# Altium schematic symbol library SCH - MCU - STM32 - ST MICROELECTRONICS STM32L433C(B-C)YX WLCSP49.SchLib: 1 symbol
Pins are listed as number, name and electrical type; pins without a type are passive.

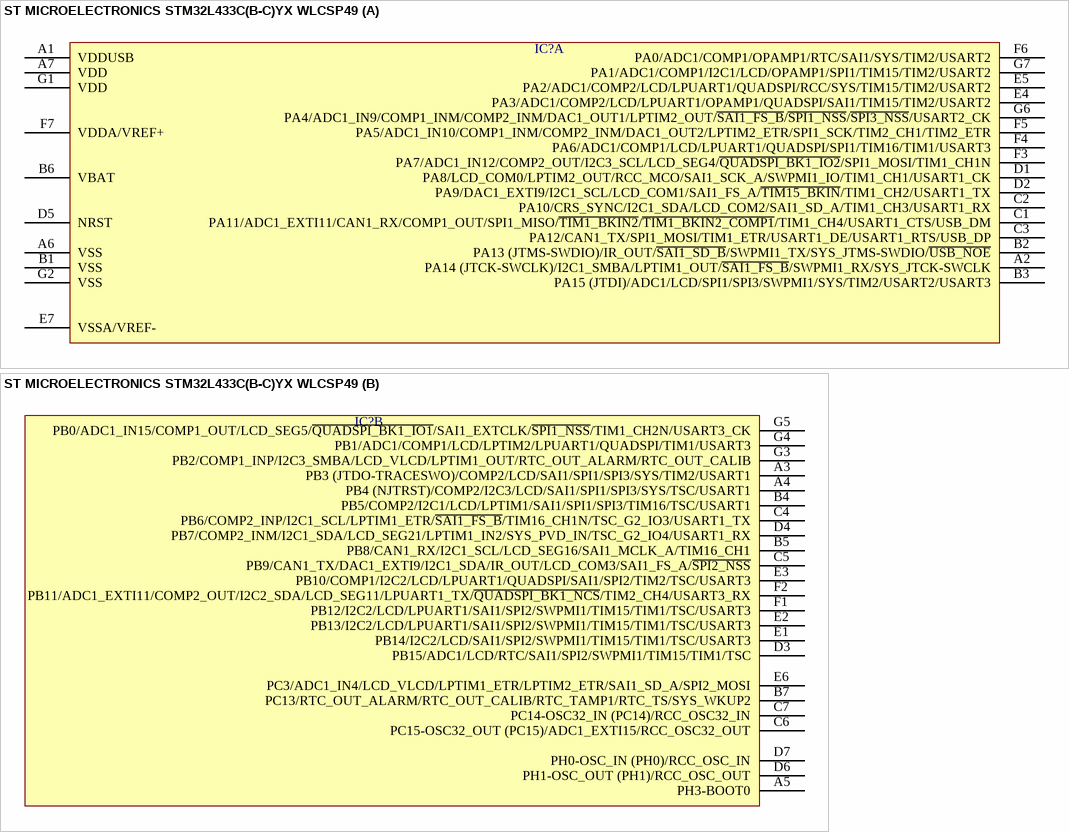
[diagram p0: symbol ST MICROELECTRONICS STM32L433C(B-C)YX WLCSP49]

## ST MICROELECTRONICS STM32L433C(B-C)YX WLCSP49
designator IC?  (value not drawn)
part A pins: A1 VDDUSB, A2 PA14 (JTCK-SWCLK)/I2C1_SMBA/LPTIM1_OUT/~{SAI1_FS_B}/SWPMI1_RX/SYS_JTCK-SWCLK, A6 VSS, A7 VDD, B1 VSS, B2 PA13 (JTMS-SWDIO)/IR_OUT/~{SAI1_SD_B}/SWPMI1_TX/SYS_JTMS-SWDIO/~{USB_NOE}, B3 PA15 (JTDI)/ADC1/LCD/SPI1/SPI3/SWPMI1/SYS/TIM2/USART2/USART3, B6 VBAT, C1 PA11/ADC1_EXTI11/CAN1_RX/COMP1_OUT/SPI1_MISO/~{TIM1_BKIN2}/~{TIM1_BKIN2_COMP1}/TIM1_CH4/USART1_CTS/USB_DM, C2 PA10/CRS_SYNC/I2C1_SDA/LCD_COM2/SAI1_SD_A/TIM1_CH3/USART1_RX, C3 PA12/CAN1_TX/SPI1_MOSI/TIM1_ETR/USART1_DE/USART1_RTS/USB_DP, D1 PA8/LCD_COM0/LPTIM2_OUT/RCC_MCO/SAI1_SCK_A/SWPMI1_IO/TIM1_CH1/USART1_CK, D2 PA9/DAC1_EXTI9/I2C1_SCL/LCD_COM1/SAI1_FS_A/~{TIM15_BKIN}/TIM1_CH2/USART1_TX, D5 NRST, E4 PA3/ADC1/COMP2/LCD/LPUART1/OPAMP1/QUADSPI/SAI1/TIM15/TIM2/USART2, E5 PA2/ADC1/COMP2/LCD/LPUART1/QUADSPI/RCC/SYS/TIM15/TIM2/USART2, E7 VSSA/VREF-, F3 PA7/ADC1_IN12/COMP2_OUT/I2C3_SCL/LCD_SEG4/~{QUADSPI_BK1_IO2}/SPI1_MOSI/TIM1_CH1N, F4 PA6/ADC1/COMP1/LCD/LPUART1/QUADSPI/SPI1/TIM16/TIM1/USART3, F5 PA5/ADC1_IN10/COMP1_INM/COMP2_INM/DAC1_OUT2/LPTIM2_ETR/SPI1_SCK/TIM2_CH1/TIM2_ETR, F6 PA0/ADC1/COMP1/OPAMP1/RTC/SAI1/SYS/TIM2/USART2, F7 VDDA/VREF+, G1 VDD, G2 VSS, G6 PA4/ADC1_IN9/COMP1_INM/COMP2_INM/DAC1_OUT1/LPTIM2_OUT/~{SAI1_FS_B}/~{SPI1_NSS}/~{SPI3_NSS}/USART2_CK, G7 PA1/ADC1/COMP1/I2C1/LCD/OPAMP1/SPI1/TIM15/TIM2/USART2
part B pins: A3 PB3 (JTDO-TRACESWO)/COMP2/LCD/SAI1/SPI1/SPI3/SYS/TIM2/USART1, A4 PB4 (NJTRST)/COMP2/I2C3/LCD/SAI1/SPI1/SPI3/SYS/TSC/USART1, A5 PH3-BOOT0, B4 PB5/COMP2/I2C1/LCD/LPTIM1/SAI1/SPI1/SPI3/TIM16/TSC/USART1, B5 PB8/CAN1_RX/I2C1_SCL/LCD_SEG16/SAI1_MCLK_A/TIM16_CH1, B7 PC13/RTC_OUT_ALARM/RTC_OUT_CALIB/RTC_TAMP1/RTC_TS/SYS_WKUP2, C4 PB6/COMP2_INP/I2C1_SCL/LPTIM1_ETR/~{SAI1_FS_B}/TIM16_CH1N/TSC_G2_IO3/USART1_TX, C5 PB9/CAN1_TX/DAC1_EXTI9/I2C1_SDA/IR_OUT/LCD_COM3/SAI1_FS_A/~{SPI2_NSS}, C6 PC15-OSC32_OUT (PC15)/ADC1_EXTI15/RCC_OSC32_OUT, C7 PC14-OSC32_IN (PC14)/RCC_OSC32_IN, D3 PB15/ADC1/LCD/RTC/SAI1/SPI2/SWPMI1/TIM15/TIM1/TSC, D4 PB7/COMP2_INM/I2C1_SDA/LCD_SEG21/LPTIM1_IN2/SYS_PVD_IN/TSC_G2_IO4/USART1_RX, D6 PH1-OSC_OUT (PH1)/RCC_OSC_OUT, D7 PH0-OSC_IN (PH0)/RCC_OSC_IN, E1 PB14/I2C2/LCD/SAI1/SPI2/SWPMI1/TIM15/TIM1/TSC/USART3, E2 PB13/I2C2/LCD/LPUART1/SAI1/SPI2/SWPMI1/TIM15/TIM1/TSC/USART3, E3 PB10/COMP1/I2C2/LCD/LPUART1/QUADSPI/SAI1/SPI2/TIM2/TSC/USART3, E6 PC3/ADC1_IN4/LCD_VLCD/LPTIM1_ETR/LPTIM2_ETR/SAI1_SD_A/SPI2_MOSI, F1 PB12/I2C2/LCD/LPUART1/SAI1/SPI2/SWPMI1/TIM15/TIM1/TSC/USART3, F2 PB11/ADC1_EXTI11/COMP2_OUT/I2C2_SDA/LCD_SEG11/LPUART1_TX/~{QUADSPI_BK1_NCS}/TIM2_CH4/USART3_RX, G3 PB2/COMP1_INP/I2C3_SMBA/LCD_VLCD/LPTIM1_OUT/RTC_OUT_ALARM/RTC_OUT_CALIB, G4 PB1/ADC1/COMP1/LCD/LPTIM2/LPUART1/QUADSPI/TIM1/USART3, G5 PB0/ADC1_IN15/COMP1_OUT/LCD_SEG5/~{QUADSPI_BK1_IO1}/SAI1_EXTCLK/~{SPI1_NSS}/TIM1_CH2N/USART3_CK